# EAGLE library part INA103 (library opamps)
INA103: Low noise instrumentation opamp (Burr-Brown) ±15V, ±70mA, 12µA bias 100µV offset, 6MHz UGF, 1.4nV/rt(Hz) noise
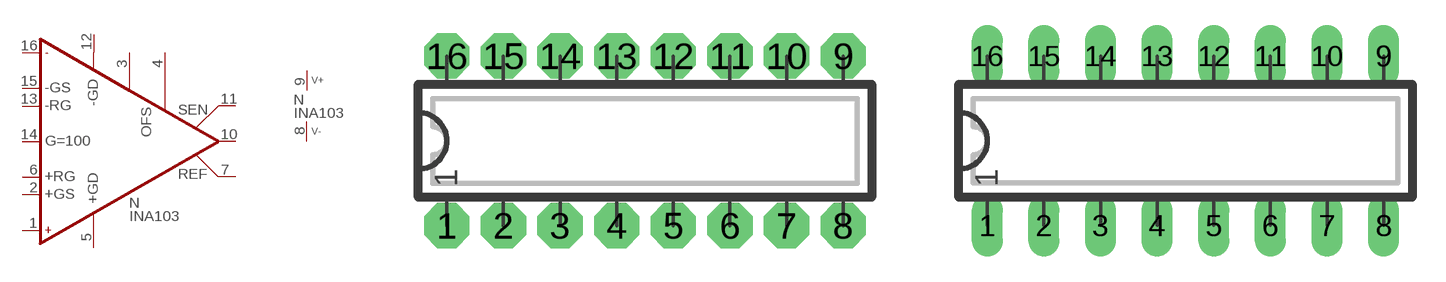
[diagram p200: symbol with the pads of DIP16N; footprints DIP16N, DIP16L]

Designator prefix N; gates A=INA_3 P=V+-

## INA103N  [DIP16N]
1  A:OP+  in
2  A:+GS
3  A:OFS1
4  A:OFS2
5  A:+GD
6  A:+RG
7  A:REF
8  P:V-  pwr
9  P:V+  pwr
10  A:OPO  out
11  A:SEN
12  A:-GD
13  A:-RG
14  A:G=100
15  A:-GS
16  A:OP-  in

## INA103L  [DIP16L]
Pads as for DIP16N

## INA103R  [DIP16R]
Pads as for DIP16N

## INA103  [DIP16L]
Pads as for DIP16N

## INA103S  [SO16W]
Pads as for DIP16N

## Footprint DIP16N (pad centres in mm)
DIP-16 Standard IC package, 16 pins
drill 0.813 pad 2.032 octagon: 1 -8.89,-3.81; 2 -6.35,-3.81; 3 -3.81,-3.81; 4 -1.27,-3.81; 5 1.27,-3.81; 6 3.81,-3.81; 7 6.35,-3.81; 8 8.89,-3.81; 9 8.89,3.81; 10 6.35,3.81; 11 3.81,3.81; 12 1.27,3.81; 13 -1.27,3.81; 14 -3.81,3.81; 15 -6.35,3.81; 16 -8.89,3.81

## Footprint DIP16L (pad centres in mm)
DIP-16, long pads Standard IC package, 16 pins
drill 0.813 pad 1.397 long: 1 -8.89,-3.81; 2 -6.35,-3.81; 3 -3.81,-3.81; 4 -1.27,-3.81; 5 1.27,-3.81; 6 3.81,-3.81; 7 6.35,-3.81; 8 8.89,-3.81; 9 8.89,3.81; 10 6.35,3.81; 11 3.81,3.81; 12 1.27,3.81; 13 -1.27,3.81; 14 -3.81,3.81; 15 -6.35,3.81; 16 -8.89,3.81

## Footprint DIP16R (pad centres in mm)
DIP-16, reduced pads Standard IC package, 16 pins
drill 0.813 pad 1.397 square: 1 -8.89,-3.81; 2 -6.35,-3.81; 3 -3.81,-3.81; 4 -1.27,-3.81; 5 1.27,-3.81; 6 3.81,-3.81; 7 6.35,-3.81; 8 8.89,-3.81; 9 8.89,3.81; 10 6.35,3.81; 11 3.81,3.81; 12 1.27,3.81; 13 -1.27,3.81; 14 -3.81,3.81; 15 -6.35,3.81; 16 -8.89,3.81

## Footprint SO16W (pad centres in mm)
SO-16 wide, SMD SOIC IC package (0.3" wide), 16 pins
smd 0.635 x 1.778: 1 -4.445,-4.763; 2 -3.175,-4.763; 3 -1.905,-4.763; 4 -0.635,-4.763; 5 0.635,-4.763; 6 1.905,-4.763; 7 3.175,-4.763; 8 4.445,-4.763; 9 4.445,4.763; 10 3.175,4.763; 11 1.905,4.763; 12 0.635,4.763; 13 -0.635,4.763; 14 -1.905,4.763; 15 -3.175,4.763; 16 -4.445,4.763